# EAGLE library part JTAG_ARM_10PIN (library ek-tm4c129exl)
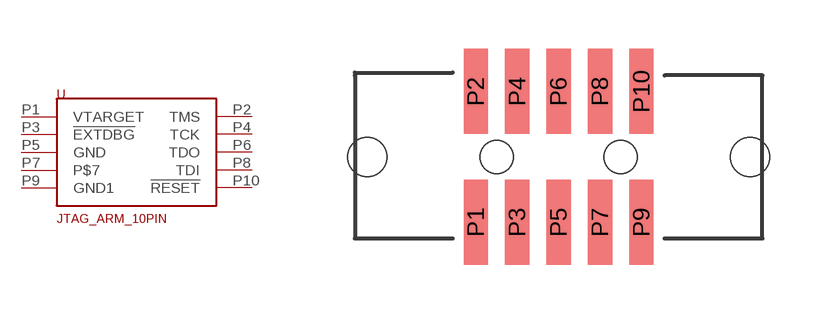
[diagram p3: symbol with the pads of CON_2X5_50MIL; footprint CON_2X5_50MIL]

Designator prefix -

## JTAG_ARM_10PIN  [CON_2X5_50MIL]
P1  VTARGET
P2  TMS
P3  !EXTDBG
P4  TCK
P5  GND
P6  TDO
P7  P$7
P8  TDI
P9  GND1
P10  !RESET

## Footprint CON_2X5_50MIL (pad centres in mm)
smd 0.74 x 2.6: P1 0,0; P2 0,4.008; P3 1.27,0; P4 1.27,4.008; P5 2.54,0; P6 2.54,4.008; P7 3.81,0; P8 3.81,4.008; P9 5.08,0; P10 5.08,4.008
hole 1 at 4.44,2
hole 1 at 0.64,2
hole 1.2 at 8.407,2
hole 1.2 at -3.327,2